# Altium schematic symbol library MCU STM32.SchLib: 1 symbol
Pins are listed as number, name and electrical type; pins without a type are passive.

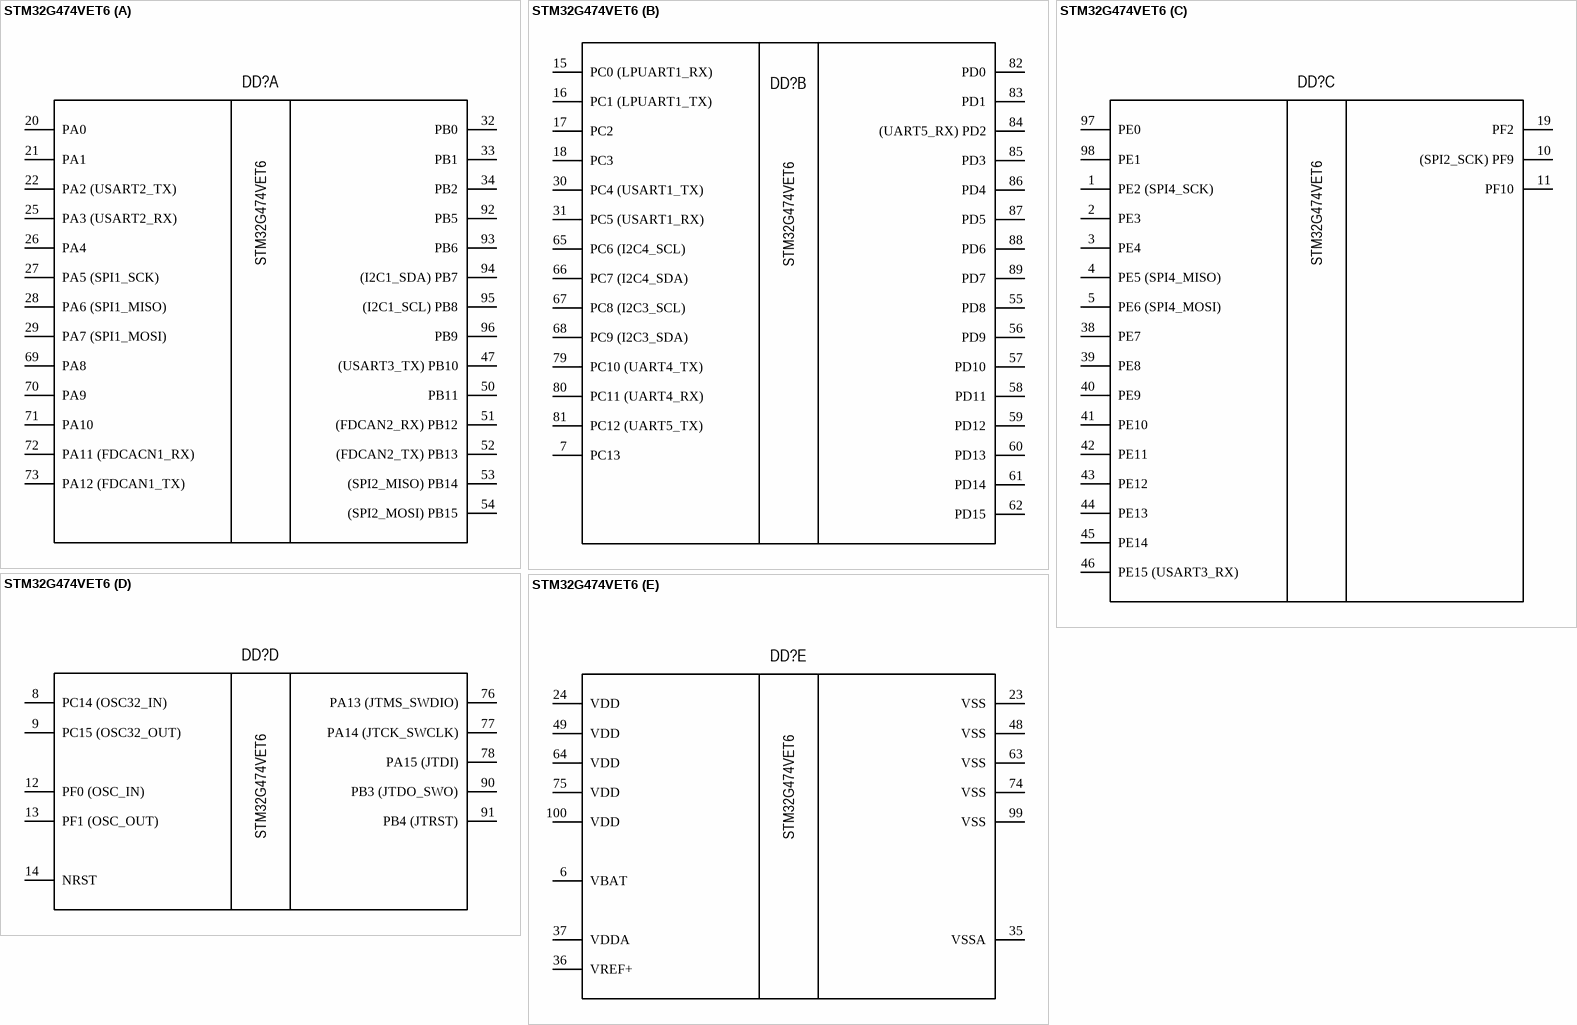
[diagram p0: symbol STM32G474VET6]

## STM32G474VET6
designator DD?
MCU STM32G4 Cortex-M4; Manufacturer: ST; Group: Digital - MCU; Core Size: 32 Bit; Speed: 48MHz; Connectivity: SERCOMx6 (USART, SPI, I2C); Number of I/O: 38; Program Memory Size: 64KB; Core Processor: ARM Cortex-M4; RAM Size: 8KB; Voltage Supply: 1.62V - 3.63V; Data Converters: ADCx14, DAC, ACx2; Clock sources: TCx6, WFx2, RTC; Package: QFN-48; Part name: STM32G474VET6; Operating Temperature: -40°C +85°C; Thickness: 0.90mm; Dimension: 7.00mm x 7.00mm; Mounting Type: Surface Mount
footprint TQFP-100N (QFP-100 (14x14))
part A pins: 20 PA0, 21 PA1, 22 PA2 (USART2_TX), 25 PA3 (USART2_RX), 26 PA4, 27 PA5 (SPI1_SCK), 28 PA6 (SPI1_MISO), 29 PA7 (SPI1_MOSI), 32 PB0, 33 PB1, 34 PB2, 47 (USART3_TX) PB10, 50 PB11, 51 (FDCAN2_RX) PB12, 52 (FDCAN2_TX) PB13, 53 (SPI2_MISO) PB14, 54 (SPI2_MOSI) PB15, 69 PA8, 70 PA9, 71 PA10, 72 PA11 (FDCACN1_RX), 73 PA12 (FDCAN1_TX), 92 PB5, 93 PB6, 94 (I2C1_SDA) PB7, 95 (I2C1_SCL) PB8, 96 PB9
part B pins: 7 PC13, 15 PC0 (LPUART1_RX), 16 PC1 (LPUART1_TX), 17 PC2, 18 PC3, 30 PC4 (USART1_TX), 31 PC5 (USART1_RX), 55 PD8, 56 PD9, 57 PD10, 58 PD11, 59 PD12, 60 PD13, 61 PD14, 62 PD15, 65 PC6 (I2C4_SCL), 66 PC7 (I2C4_SDA), 67 PC8 (I2C3_SCL), 68 PC9 (I2C3_SDA), 79 PC10 (UART4_TX), 80 PC11 (UART4_RX), 81 PC12 (UART5_TX), 82 PD0, 83 PD1, 84 (UART5_RX) PD2, 85 PD3, 86 PD4, 87 PD5, 88 PD6, 89 PD7
part C pins: 1 PE2 (SPI4_SCK), 2 PE3, 3 PE4, 4 PE5 (SPI4_MISO), 5 PE6 (SPI4_MOSI), 10 (SPI2_SCK) PF9, 11 PF10, 19 PF2, 38 PE7, 39 PE8, 40 PE9, 41 PE10, 42 PE11, 43 PE12, 44 PE13, 45 PE14, 46 PE15 (USART3_RX), 97 PE0, 98 PE1
part D pins: 8 PC14 (OSC32_IN), 9 PC15 (OSC32_OUT), 12 PF0 (OSC_IN), 13 PF1 (OSC_OUT), 14 NRST, 76 PA13 (JTMS_SWDIO), 77 PA14 (JTCK_SWCLK), 78 PA15 (JTDI), 90 PB3 (JTDO_SWO), 91 PB4 (JTRST)
part E pins: 6 VBAT, 23 VSS, 24 VDD, 35 VSSA, 36 VREF+, 37 VDDA, 48 VSS, 49 VDD, 63 VSS, 64 VDD, 74 VSS, 75 VDD, 99 VSS, 100 VDD